# Altium footprint library LQFP128-20X14X16.PcbLib: 3 footprints
Each footprint in its own frame and in the unit in brackets; x right, y up, seen from the top. Pads: shape width x height; smd on the part's side, far side on the other; paste and mask are expansions set on the pad; w line width, h text height; cw(c..) or ccw(c..) is an arc to the next point about the centre after c.
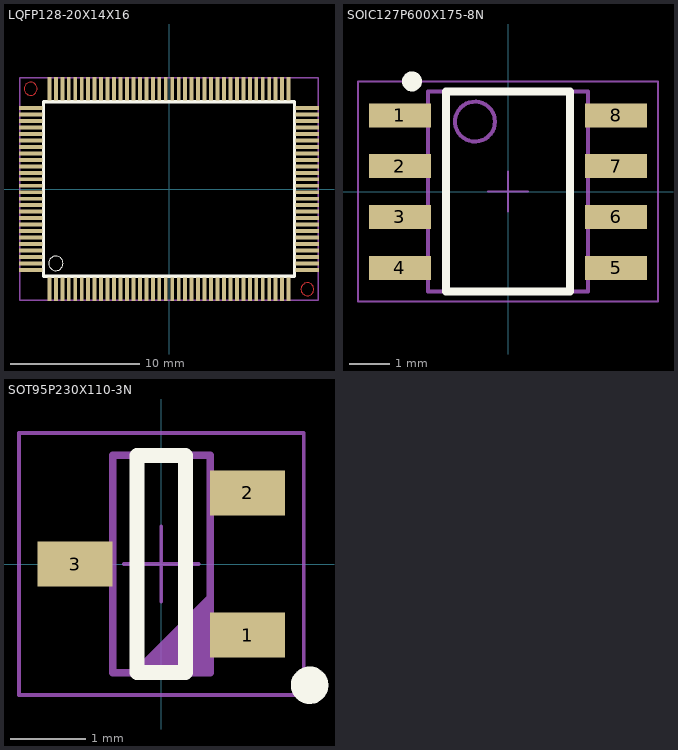
[diagram p0: the footprints below, top view; thin cyan lines are the x and y axes]

## LQFP128-20X14X16 [mm]
pads (128):
  rect 0.3x1.8 smd: 1(-9.25,-7.75) 2(-8.75,-7.75) 3(-8.25,-7.75) 4(-7.75,-7.75) 5(-7.25,-7.75) 6(-6.75,-7.75) 7(-6.25,-7.75) 8(-5.75,-7.75) 9(-5.25,-7.75) 10(-4.75,-7.75) 11(-4.25,-7.75) 12(-3.75,-7.75) 13(-3.25,-7.75) 14(-2.75,-7.75) 15(-2.25,-7.75) 16(-1.75,-7.75) 17(-1.25,-7.75) 18(-0.75,-7.75) 19(-0.25,-7.75) 20(0.25,-7.75) 21(0.75,-7.75) 22(1.25,-7.75) 23(1.75,-7.75) 24(2.25,-7.75) 25(2.75,-7.75) 26(3.25,-7.75) 27(3.75,-7.75) 28(4.25,-7.75) 29(4.75,-7.75) 30(5.25,-7.75) 31(5.75,-7.75) 32(6.25,-7.75) 33(6.75,-7.75) 34(7.25,-7.75) 35(7.75,-7.75) 36(8.25,-7.75) 37(8.75,-7.75) 38(9.25,-7.75) 65(9.25,7.75) 66(8.75,7.75) 67(8.25,7.75) 68(7.75,7.75) 69(7.25,7.75) 70(6.75,7.75) 71(6.25,7.75) 72(5.75,7.75) 73(5.25,7.75) 74(4.75,7.75) 75(4.25,7.75) 76(3.75,7.75) 77(3.25,7.75) 78(2.75,7.75) 79(2.25,7.75) 80(1.75,7.75) 81(1.25,7.75) 82(0.75,7.75) 83(0.25,7.75) 84(-0.25,7.75) 85(-0.75,7.75) 86(-1.25,7.75) 87(-1.75,7.75) 88(-2.25,7.75) 89(-2.75,7.75) 90(-3.25,7.75) 91(-3.75,7.75) 92(-4.25,7.75) 93(-4.75,7.75) 94(-5.25,7.75) 95(-5.75,7.75) 96(-6.25,7.75) 97(-6.75,7.75) 98(-7.25,7.75) 99(-7.75,7.75) 100(-8.25,7.75) 101(-8.75,7.75) 102(-9.25,7.75)
  rect 1.8x0.3 smd: 39(10.7,-6.25) 40(10.7,-5.75) 41(10.7,-5.25) 42(10.7,-4.75) 43(10.7,-4.25) 44(10.7,-3.75) 45(10.7,-3.25) 46(10.7,-2.75) 47(10.7,-2.25) 48(10.7,-1.75) 49(10.7,-1.25) 50(10.7,-0.75) 51(10.7,-0.25) 52(10.7,0.25) 53(10.7,0.75) 54(10.7,1.25) 55(10.7,1.75) 56(10.7,2.25) 57(10.7,2.75) 58(10.7,3.25) 59(10.7,3.75) 60(10.7,4.25) 61(10.7,4.75) 62(10.7,5.25) 63(10.7,5.75) 64(10.7,6.25) 103(-10.7,6.25) 104(-10.7,5.75) 105(-10.7,5.25) 106(-10.7,4.75) 107(-10.7,4.25) 108(-10.7,3.75) 109(-10.7,3.25) 110(-10.7,2.75) 111(-10.7,2.25) 112(-10.7,1.75) 113(-10.7,1.25) 114(-10.7,0.75) 115(-10.7,0.25) 116(-10.7,-0.25) 117(-10.7,-0.75) 118(-10.7,-1.25) 119(-10.7,-1.75) 120(-10.7,-2.25) 121(-10.7,-2.75) 122(-10.7,-3.25) 123(-10.7,-3.75) 124(-10.7,-4.25) 125(-10.7,-4.75) 126(-10.7,-5.25) 127(-10.7,-5.75) 128(-10.7,-6.25)
Top Layer:
  circle w0: c-10.7,7.75 r0.5
  circle w0: c10.7,-7.75 r0.5
Top Overlay:
  circle w0: c-8.75,-5.75 r0.559
  lines w0.254: -9.7,-6.75 9.7,-6.75 9.7,6.75 -9.7,6.75 -9.7,-6.75
Top Paste:
  circle w0: c-10.7,7.75 r0.5
  circle w0: c10.7,-7.75 r0.5
Top Solder:
  circle w0: c-10.7,7.75 r0.5
  circle w0: c10.7,-7.75 r0.5
Mechanical 16:
  lines w0.1: -11.55,-8.6 11.55,-8.6 11.55,8.6 -11.55,8.6 -11.55,-8.6
3D body: height 2.85, standoff -0.03, extent -11.604,-8.581 11.598,8.621

## SOIC127P600X175-8N [mm] "SOIC 8, Pitch 1.27mm - Body 4x5mm, IPC Medium Density"
height 1.75
pads (8):
  rect 1.55x0.6 smd: 1(-2.7,1.905) 2(-2.7,0.635) 3(-2.7,-0.635) 4(-2.7,-1.905) 5(2.7,-1.905) 6(2.7,-0.635) 7(2.7,0.635) 8(2.7,1.905)
Top Overlay:
  circle w0.25: c-2.4,2.755 r0.125
  lines w0.2: -1.55,-2.5 -1.55,2.5 1.55,2.5 1.55,-2.5 -1.55,-2.5
Mechanical 14:
  circle w0.1: c-0.825,1.75 r0.5
  lines w0.1: -2,-2.5 -2,2.5 2,2.5 2,-2.5 -2,-2.5
Mechanical 15:
  lines w0.05: -0.5,0 0.5,0 ; 0,-0.5 0,0.5 ; -3.75,-2.75 -3.75,2.75 3.75,2.75 3.75,-2.75 -3.75,-2.75
3D body: height 1.75, standoff 0, extent -3.1,-2.5 3.1,2.5

## SOT95P230X110-3N [mm] "SOT23, 3 pin, Pitch 0.95mm - 1.3mm W X 2.9mm L X 1.1mm H, IPC Medium Density"
height 1.1
pads (3):
  rect 1x0.6 smd: 1(1.15,-0.95) 2(1.15,0.95) 3(-1.15,0)
Top Overlay:
  circle w0.25: c1.979,-1.618 r0.125
  lines w0.2: -0.325,-1.45 0.325,-1.45 0.325,1.45 -0.325,1.45 -0.325,-1.45
Mechanical 14:
  lines w0.1: -0.35,-1.45 0.65,-0.45 ; -0.25,-1.45 0.65,-0.55 ; -0.15,-1.45 0.65,-0.65 ; -0.05,-1.45 0.65,-0.75 ; 0.05,-1.45 0.65,-0.85 ; 0.15,-1.45 0.65,-0.95 ; 0.25,-1.45 0.65,-1.05 ; 0.35,-1.45 0.65,-1.15 ; 0.45,-1.45 0.65,-1.25 ; 0.55,-1.45 0.65,-1.35 ; -0.65,-1.45 0.65,-1.45 0.65,1.45 -0.65,1.45 -0.65,-1.45
Mechanical 15:
  lines w0.05: -0.5,0 0.5,0 ; 0,-0.5 0,0.5 ; -1.9,-1.75 1.9,-1.75 1.9,1.75 -1.9,1.75 -1.9,-1.75
3D body: height 1.1, standoff 0, extent -1.334,-1.5 1.166,1.5